# Altium schematic symbol library Schlib_Signal_Conditioning.SchLib: 1 symbol
Pins are listed as number, name and electrical type; pins without a type are passive.

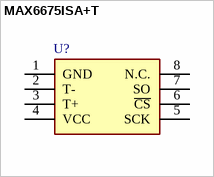
[diagram p0: symbol MAX6675ISA+T]

## MAX6675ISA+T
designator U?
Sensor Interface Cold-Junction-Compensated K-Thermocouple-to-Digital Converter (0 C to +1024 C); Manufacturer_Name: Analog Devices; Manufacturer_Part_Number: MAX6675ISA+T; Geometry.Height: 1.75mm; Mouser Part Number: 700-MAX6675ISAT; Mouser Price/Stock: https://www.mouser.co.uk/ProductDetail/Analog-Devices-Maxim-Integrated/MAX6675ISA%2bT?qs=1THa7WoU59FV%2FT3S8QjZ%252Bg%3D%3D; Arrow Part Number: MAX6675ISA+T; Arrow Price/Stock: https://www.arrow.com/en/products/max6675isat/analog-devices?utm_currency=USD&region=nac; Datasheet Link: https://datasheets.maximintegrated.com/en/ds/MAX6675.pdf
footprint SOP-8
pins: 1 GND, 2 T-, 3 T+, 4 VCC, 5 SCK, 6 ~{CS}, 7 SO, 8 N.C.